# EAGLE library part MCP6002-I_P (library MCP6002-I_P)
Operational Amplifiers - Op Amps Dual 1.8V 1MHz Source: Datasheet <https://www.mouser.com/datasheet/2/268/21733j-740845.pdf>
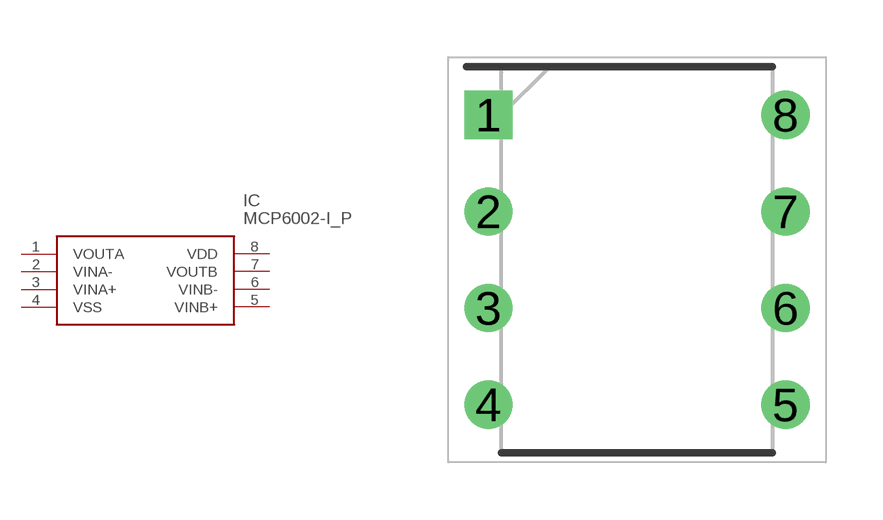
[diagram p0: symbol with the pads of DIP781W56P254L950H533Q8N; footprint DIP781W56P254L950H533Q8N]

Designator prefix IC

## MCP6002-I_P (Arrow_Part_Number: MCP6002-I/P; Arrow_Price-Stock: https://www.arrow.com/en/products/mcp6002-ip/microchip-technology.html?utm_currency=USD&region=asia; Description: Operational Amplifiers - Op Amps Dual 1.8V 1MHz; Height: 5.334mm; Manufacturer_Name: Microchip; Manufacturer_Part_Number: MCP6002-I/P; Mouser_Part_Number: 579-MCP6002-I/P; Mouser_Price-Stock: https://www.mouser.co.uk/ProductDetail/Microchip-Technology/MCP6002-I-P?qs=Ux5rHyN1IXStLRM979v6Rg%3D%3D)  [DIP781W56P254L950H533Q8N]
1  VOUTA
2  VINA-
3  VINA+
4  VSS
5  VINB+
6  VINB-
7  VOUTB
8  VDD

## Footprint DIP781W56P254L950H533Q8N (pad centres in mm)
PDIP
drill 0.759 pad 1.159 square: 1 -3.905,3.81
drill 0.759 pad 1.159: 2 -3.905,1.27; 3 -3.905,-1.27; 4 -3.905,-3.81; 5 3.905,-3.81; 6 3.905,-1.27; 7 3.905,1.27; 8 3.905,3.81